# Altium footprint library Component.PcbLib: 1 footprints
Each footprint in its own frame and in the unit in brackets; x right, y up, seen from the top. Pads: shape width x height; smd on the part's side, far side on the other; paste and mask are expansions set on the pad; w line width, h text height; cw(c..) or ccw(c..) is an arc to the next point about the centre after c.
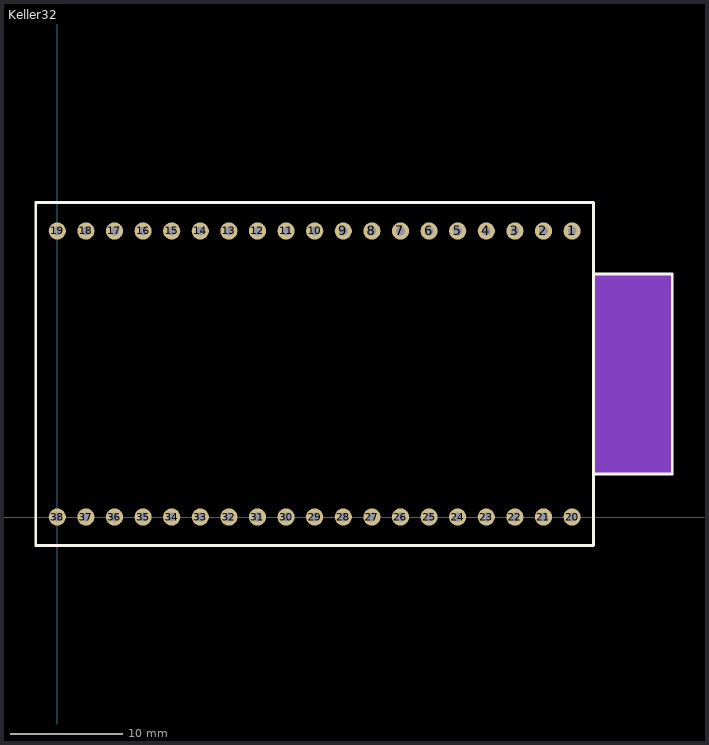
[diagram p0: the footprint, top view; thin cyan lines are the x and y axes]

## Keller32 [mil] "ESP32 devboard"
pads (38):
  round 60 hole 30: 1(1800,1000) 2(1700,1000) 3(1600,1000) 4(1500,1000) 5(1400,1000) 6(1300,1000) 7(1200,1000) 8(1100,1000) 9(1000,1000) 10(900,1000) 11(800,1000) 12(700,1000) 13(600,1000) 14(500,1000) 15(400,1000) 16(300,1000) 17(200,1000) 18(100,1000) 19(0,1000) 20(1800,0) 21(1700,0) 22(1600,0) 23(1500,0) 24(1400,0) 25(1300,0) 26(1200,0) 27(1100,0) 28(1000,0) 29(900,0) 30(800,0) 31(700,0) 32(600,0) 33(500,0) 34(400,0) 35(300,0) 36(200,0) 37(100,0) 38(0,0)
Top Layer keep-out:
  region: 1875,150 1875,850 2150,850 2150,150
Bottom Layer keep-out:
  region: 1875,150 1875,850 2150,850 2150,150
Top Overlay:
  lines w10: 1875,150 1875,-100 -75,-100 -75,1100 1875,1100 1875,850 ; 1875,150 2150,150 2150,850 1875,850 ; 1875,150 1875,850
  text ".Designator" at 600.1,480.01 h60
3D body "Keller32.step": height 300.79, standoff -18.93, extent -73.15,-100 2141.97,1100